# Altium footprint library CTX1224TR.PcbLib: 1 footprints
Each footprint in its own frame and in the unit in brackets; x right, y up, seen from the top. Pads: shape width x height; smd on the part's side, far side on the other; paste and mask are expansions set on the pad; w line width, h text height; cw(c..) or ccw(c..) is an arc to the next point about the centre after c.
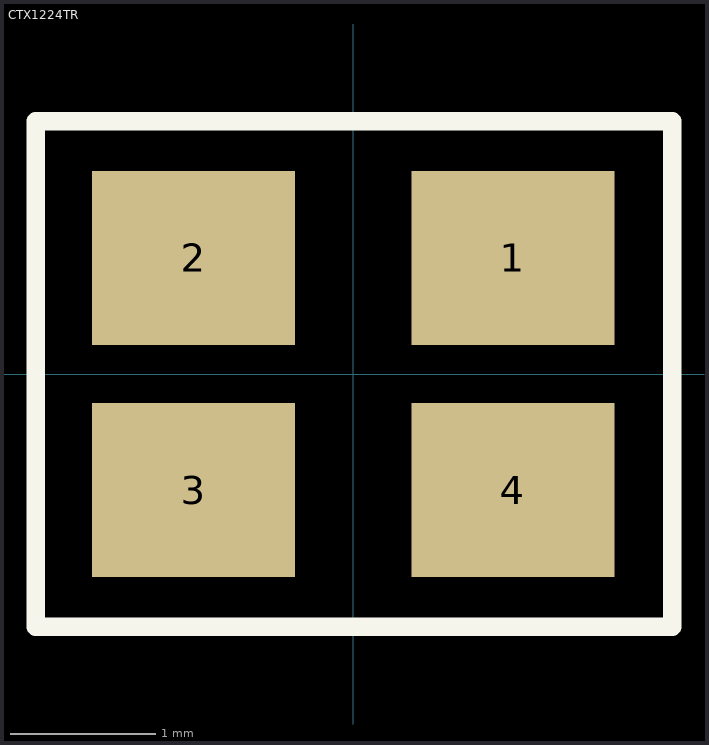
[diagram p0: the footprint, top view; thin cyan lines are the x and y axes]

## CTX1224TR [mm]
pads (4):
  rect 1.4x1.2 smd: 1(1.1,0.8) 2(-1.1,0.8) 3(-1.1,-0.8) 4(1.1,-0.8)
Top Overlay:
  lines w0.127: -2.187,-1.74 2.197,-1.74 2.197,1.74 -2.187,1.74 -2.187,-1.74
3D body: height 0.55, standoff 0, extent -1.25,-1 1.25,1